# Altium footprint library PCB - CAPACITOR - ALUMINIUM - CAP ALSMD ELEC 16.3MM H17.5MM.pcblib: 1 footprints
Each footprint in its own frame and in the unit in brackets; x right, y up, seen from the top. Pads: shape width x height; smd on the part's side, far side on the other; paste and mask are expansions set on the pad; w line width, h text height; cw(c..) or ccw(c..) is an arc to the next point about the centre after c.
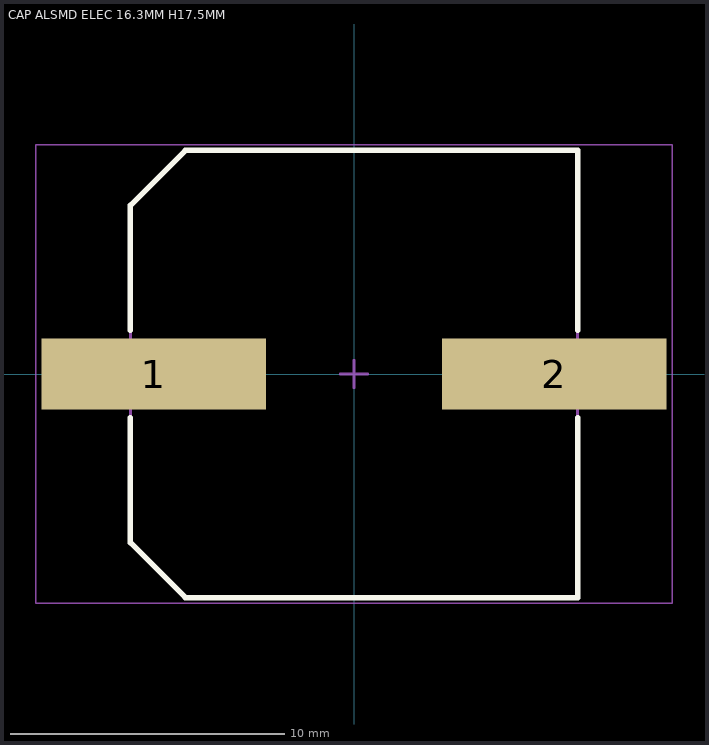
[diagram p0: the footprint, top view; thin cyan lines are the x and y axes]

## CAP ALSMD ELEC 16.3MM H17.5MM [mm] "Aluminum SMD Electrolytic Capacitor, 16.30mm Land Size, 16.00mm Diameter, 17.50mm Height, 18.60mm Maximum Leads Span"
height 1.3
pads (2):
  rect 8.2x2.6 smd: 1(-7.3,0) 2(7.3,0)
Top Overlay:
  lines w0.2: -8.15,-1.6 -8.15,-6.15 -6.15,-8.15 8.15,-8.15 8.15,-1.6 ; -8.15,1.6 -8.15,6.15 -6.15,8.15 8.15,8.15 8.15,1.6
Mechanical 13:
  lines w0.1: -8.15,-6.15 -8.15,6.15 -6.15,8.15 8.15,8.15 8.15,-8.15 -6.15,-8.15 -8.15,-6.15
Mechanical 15:
  lines w0.05: -11.6,-8.35 -11.6,8.35 11.6,8.35 11.6,-8.35 -11.6,-8.35
  lines w0.1: -0.5,0 0.5,0 ; 0,-0.5 0,0.5
3D body: height 17.5, standoff 0, extent -9.3,-8.15 9.3,8.15